# EAGLE library part BQ2201SN-N (library BQ2201SN-N)
BQ2201SN-N, SRAM Controller Unit Surface Mount, -40 +85 C, 8-Pin, SOIC Source: Datasheet <http://www.ti.com/lit/gpn/BQ2201>
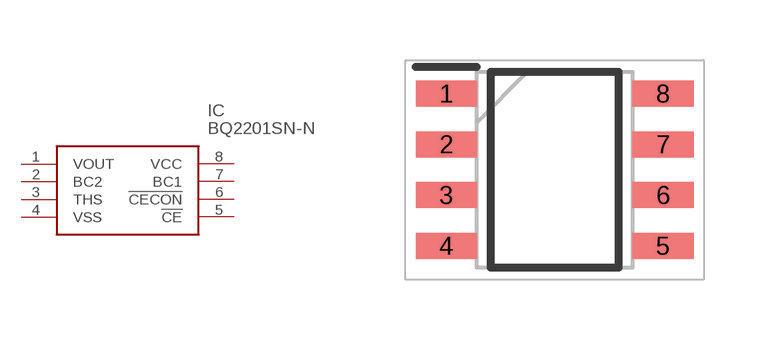
[diagram p0: symbol with the pads of SOIC127P600X175-8N; footprint SOIC127P600X175-8N]

Designator prefix IC

## BQ2201SN-N (Description: BQ2201SN-N, SRAM Controller Unit Surface Mount, -40 +85 C, 8-Pin, SOIC; Height: 1.75mm; Manufacturer_Name: Texas Instruments; Manufacturer_Part_Number: BQ2201SN-N; Mouser_Part_Number: 595-BQ2201SN-N; Mouser_Price-Stock: https://www.mouser.com/Search/Refine.aspx?Keyword=595-BQ2201SN-N)  [SOIC127P600X175-8N]
1  VOUT
2  BC2
3  THS
4  VSS
5  !CE
6  !CECON
7  BC1
8  VCC

## Footprint SOIC127P600X175-8N (pad centres in mm)
D
smd 1.528 x 0.65: 1 -2.711,1.905; 2 -2.711,0.635; 3 -2.711,-0.635; 4 -2.711,-1.905; 5 2.711,-1.905; 6 2.711,-0.635; 7 2.711,0.635; 8 2.711,1.905